# EAGLE library part XC9572XL-VQ44 (library _PWM_driver)
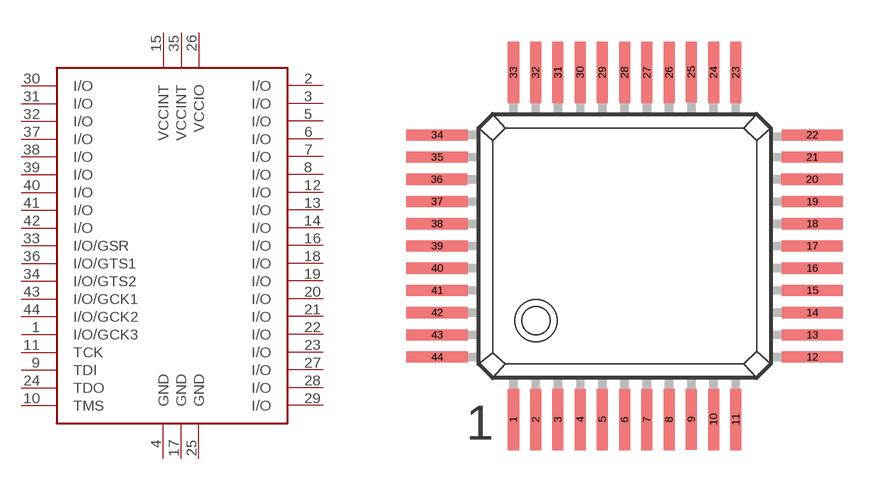
[diagram p1: symbol with the pads of QFP-44; footprint QFP-44]

Designator prefix U

## XC9572XL-VQ44  [QFP-44]
1  I/O/GCK3
2  I/O
3  I/O
4  GND  pwr
5  I/O
6  I/O
7  I/O
8  I/O
9  TDI
10  TMS
11  TCK
12  I/O
13  I/O
14  I/O
15  VCCINT  pwr
16  I/O
17  GND  pwr
18  I/O
19  I/O
20  I/O
21  I/O
22  I/O
23  I/O
24  TDO
25  GND  pwr
26  VCCIO  pwr
27  I/O
28  I/O
29  I/O
30  I/O
31  I/O
32  I/O
33  I/O/GSR
34  I/O/GTS2
35  VCCINT  pwr
36  I/O/GTS1
37  I/O
38  I/O
39  I/O
40  I/O
41  I/O
42  I/O
43  I/O/GCK1
44  I/O/GCK2

## Footprint QFP-44 (pad centres in mm)
Quad Flat Package
smd 0.4 x 2.2: 1 -4,-6.25; 2 -3.2,-6.25; 3 -2.4,-6.25; 4 -1.6,-6.25; 5 -0.8,-6.25; 6 0,-6.25; 7 0.8,-6.25; 8 1.6,-6.25; 9 2.4,-6.24; 10 3.2,-6.25; 11 4,-6.25; 23 4,6.25; 24 3.2,6.25; 25 2.4,6.26; 26 1.6,6.25; 27 0.8,6.25; 28 0,6.25; 29 -0.8,6.25; 30 -1.6,6.25; 31 -2.4,6.25; 32 -3.2,6.25; 33 -4,6.25
smd 2.2 x 0.4: 12 6.75,-4; 13 6.75,-3.2; 14 6.75,-2.4; 15 6.75,-1.6; 16 6.75,-0.8; 17 6.75,0; 18 6.75,0.8; 19 6.75,1.6; 20 6.74,2.4; 21 6.75,3.2; 22 6.75,4; 34 -6.75,4; 35 -6.75,3.2; 36 -6.76,2.4; 37 -6.75,1.6; 38 -6.75,0.8; 39 -6.75,0; 40 -6.75,-0.8; 41 -6.75,-1.6; 42 -6.75,-2.4; 43 -6.75,-3.2; 44 -6.75,-4